# Altium schematic symbol library 3m-std-hdr.SchLib: 1 symbol
Pins are listed as number, name and electrical type; pins without a type are passive.

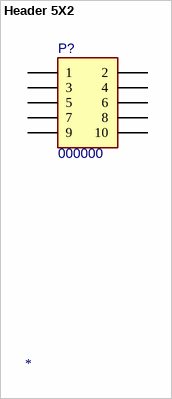
[diagram p0: symbol Header 5X2]

## Header 5X2
designator P?, comment 000000
Socket 5-Pin, Dual row; PN: 000000; Package: SMD; ExtraInfo: *; Value: *
signal-integrity model Connector
footprint 7810-0000PR (CONN PCB 10POS .100 DUAL 2.8M)
pins: 1, 2, 3, 4, 5, 6, 7, 8, 9, 10